# Altium schematic symbol library Capacitor.SchLib: 1 symbol
Pins are listed as number, name and electrical type; pins without a type are passive.

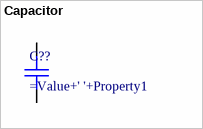
[diagram p0: symbol Capacitor]

## Capacitor
designator С??
pins: 1, 2
1 alternate drawing of the same symbol